# EAGLE library part 418117270903 (library 418117270903)
WS-DITV Compact THT with Raised Actuator 2.54 mm Mechanical Properties Operation Force:800 g Electrical Life:2000 Cycles Actuator Type:Raise Type Properties IR:25 mA VR:24 V (DC) IR:100 mA VR:50 V (DC) Contact Resistance Initial:50 mΩ Contact Resistance After Life Test:100 mΩ RISO:100 MΩ Withstanding Voltage:500 V (AC) Actuator Type:Raise Type Switch Position:Off Material Properties Cover Material:PBT Cover Flammability Rating:UL94 V-0 Cover Color:Red Base Material:PBT Base Flammability Rating:UL94 V-0 Base Color:Black Actuator Material:PBT Actuator Flammability Rating:UL94 V-0 Actuator Color:White Contact Material:Copper Alloy Contact Plating:Gold Terminal Material:Copper Alloy Terminal Plating:Gold General Information Operating Temperature:-40 up to +85 °C Packaging Properties Packaging:Tube <https://www.we-online.com/catalog/media/o60896v209%20DITV_418117270908A_gruppe.jpg> Details see: https://www.we-online.com/catalog/en/DITV_2_54_COMPACT_THT_WITH_RAISED_ACTUATOR/ Updated by Yingchun, Shan 2020-01-22 2020 (C) Würth Elektronik Check availability <https://pricing.snapeda.com/parts/418117270903/W%C3%BCrth%20Elektronik/view-part?ref=eda>
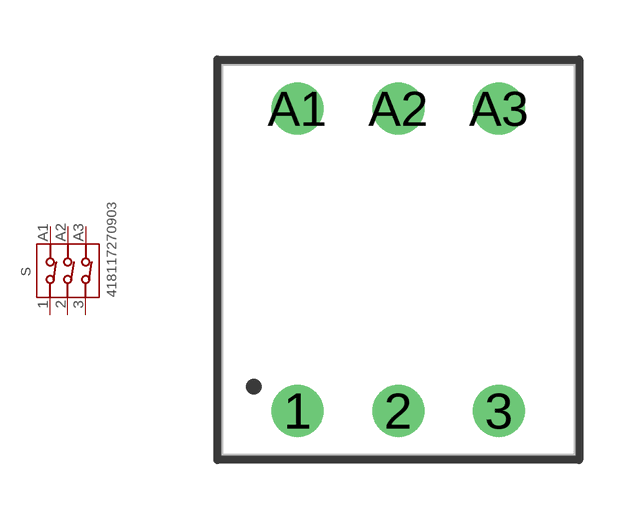
[diagram p0: symbol with the pads of 418117270903; footprint 418117270903]

Designator prefix S

## 418117270903 (Availability: In Stock; Check_prices: https://www.snapeda.com/parts/418117270903/Wurth+Elektronik/view-part/?ref=eda; Description: Dip Switch SPST 3 Position Through Hole Slide (Standard) Actuator 25mA 24VDC; MF: Würth Elektronik; MP: 418117270903; Package: None; Price: None; SnapEDA_Link: https://www.snapeda.com/parts/418117270903/Wurth+Elektronik/view-part/?ref=snap)  [418117270903]
1  1  pas
2  2  pas
3  3  pas
A1  A1  pas
A2  A2  pas
A3  A3  pas

## Footprint 418117270903 (pad centres in mm)
WS-DITV Compact THT with Raised Actuator 2.54 mm,3 Pole
drill 0.8: 1 -2.54,-3.81; 2 0,-3.81; 3 2.54,-3.81; A1 -2.54,3.81; A2 0,3.81; A3 2.54,3.81